# Altium footprint library WE_Library.PcbLib: 5 footprints
Each footprint in its own frame and in the unit in brackets; x right, y up, seen from the top. Pads: shape width x height; smd on the part's side, far side on the other; paste and mask are expansions set on the pad; w line width, h text height; cw(c..) or ccw(c..) is an arc to the next point about the centre after c.
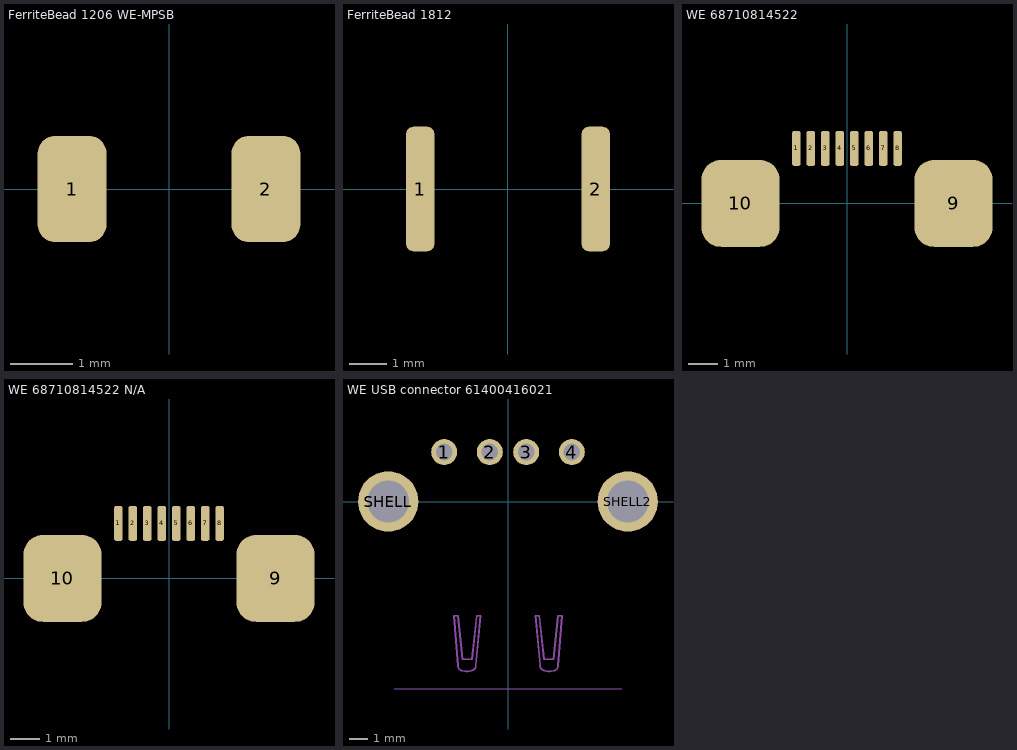
[diagram p0: the footprints below, top view; thin cyan lines are the x and y axes]

## FerriteBead 1206 WE-MPSB [mm] "FerriteBead 1206 WE-MPSB"
height 1.1
pads (2):
  rrect50% 1.1x1.7 smd: 1(-1.55,0) 2(1.55,0)
3D body "1206Inductor.stp": height 1.1, standoff 0, extent -1.6,-0.8 1.6,0.8

## FerriteBead 1812 [mm] "FerriteBead 1812"
height 3.2
pads (2):
  rrect50% 0.75x3.3 smd: 1(-2.325,0) 2(2.325,0)
3D body "WE-CBF-1812-rev1.stp": height 1.51, standoff 0.01, extent -2.25,-1.6 2.25,1.6

## WE 68710814522 [mm]
pads (10):
  rrect50% 0.3x1.2 smd: 1(-1.75,1.9) 2(-1.25,1.9) 3(-0.75,1.9) 4(-0.25,1.9) 5(0.25,1.9) 6(0.75,1.9) 7(1.25,1.9) 8(1.75,1.9)
  rrect50% 2.7x3 smd: 9(3.68,0) 10(-3.68,0)
3D body "68710814522.x_t": height 2.1, standoff 0, extent -5.2,-2.8 5.2,2.3

## WE 68710814522 N/A [mm]
pads (10):
  rrect50% 0.3x1.2 smd: 1(-1.75,1.9) 2(-1.25,1.9) 3(-0.75,1.9) 4(-0.25,1.9) 5(0.25,1.9) 6(0.75,1.9) 7(1.25,1.9) 8(1.75,1.9)
  rrect50% 2.7x3 smd: 9(3.68,0) 10(-3.68,0)

## WE USB connector 61400416021 [mm] "WE USB connector 61400416021"
pads (6):
  round 1.428 hole 0.92: 1(-3.5,2.71) 2(-1,2.71) 3(1,2.71) 4(3.5,2.71)
  round 3.316 hole 2.3: SHELL(-6.57,0) SHELL2(6.57,0)
Mechanical 13:
  lines w0.05: -6.25,-10.28 6.25,-10.28
  lines w0.102: -2.752,-9.017 ccw(c-2.458,-8.996) -2.544,-9.278 ; -2.751,-9.019 -2.959,-6.267 -2.751,-6.267 -2.492,-8.655 -1.973,-8.655 -1.713,-6.267 -1.506,-6.267 -1.765,-9.019 ; -2.543,-9.278 ccw(c-2.258,-8.347) -1.974,-9.278 ; -1.973,-9.278 ccw(c-2.059,-8.996) -1.765,-9.017 ; 1.765,-9.019 1.505,-6.267 1.713,-6.267 1.973,-8.655 2.492,-8.655 2.751,-6.267 2.959,-6.267 2.751,-9.019 ; 1.765,-9.017 ccw(c2.059,-8.996) 1.973,-9.278 ; 1.973,-9.278 ccw(c2.258,-8.347) 2.543,-9.278 ; 2.543,-9.278 ccw(c2.457,-8.996) 2.751,-9.017
  text "BOARD EDGE" at -2.4,-10.1 h0.5
3D body "USB_61400416021.stp": height 7.63, standoff -4.06, extent -8.023,-10.25 7.973,3.75